# Altium schematic symbol library Speaker.SchLib: 2 symbols
Pins are listed as number, name and electrical type; pins without a type are passive.

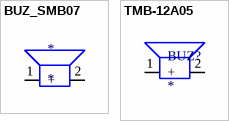
[diagram p0: symbols BUZ_SMB07 to TMB-12A05]

## BUZ_SMB07
designator *
footprint SMB07
pins: 1 +, 2

## TMB-12A05
designator BUZ?
footprint TMB-12A05
pins: 1 +, 2